# Altium schematic symbol library commutation.SchLib: 16 symbols
Pins are listed as number, name and electrical type; pins without a type are passive.

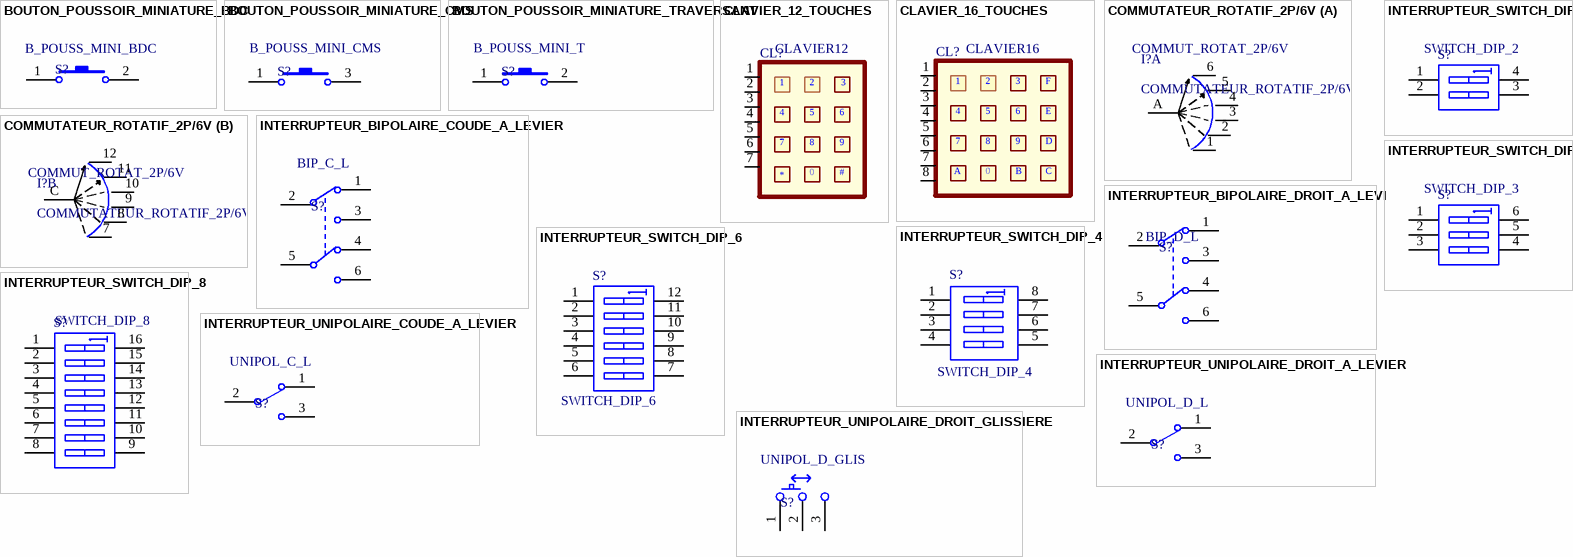
[diagram p0: symbols BOUTON_POUSSOIR_MINIATURE_BDC to INTERRUPTEUR_UNIPOLAIRE_DROIT_GLISSIERE]

## BOUTON_POUSSOIR_MINIATURE_BDC
designator S?  Type: B_POUSS_MINI_BDC  (hidden comment: BOUTON_POUSSOIR_MINIATURE_BDC)
BOUTON POUSSOIR MINIATURE - BORD DE CARTE - ON/OFF
footprint BOUTON_POUSS_BORDDECARTE (Switch; SPNO; B3F; Right Angle; PitchLong=7/4.5; Pitchlarg=2.5)
pins: 1, 2

## BOUTON_POUSSOIR_MINIATURE_CMS
designator S?  Type: B_POUSS_MINI_CMS  (hidden comment: BOUTON_POUSSOIR_MINIATURE_CMS)
BOUTON POUSSOIR MINIATURE CMS ON/OFF
footprint BOUTON_POUSS_CMS
pins: 1, 3

## BOUTON_POUSSOIR_MINIATURE_TRAVERSANT
designator S?  Type: B_POUSS_MINI_T  (hidden comment: BOUTON_POUSSOIR_MINIATURE_TRAVERSANT)
BOUTON POUSSOIR MINIATURE TRAVERSANT ON/OFF
footprint BOUTON_POUSSE_PLAT_6x6 (BOUTON POUSSOIR MINIATURE ON/OFF; BOUTON PLAT/LONG ; ESPACEMENT BROCHES = 7.62mm/5.08mm)
pins: 1, 2

## CLAVIER_12_TOUCHES
designator CL?  Type: CLAVIER12  (hidden comment: CLAVIER_12_TOUCHES)
CLAVIER 12 TOUCHES
footprint CLAVIER_12_TOUCHES (CODE_ATLANTIQUE_COMPOSANTS : IC12XY)
pins: 1, 2, 3, 4, 5, 6, 7
text: 8; 9; 0; #

## CLAVIER_16_TOUCHES
designator CL?  Type: CLAVIER16  (hidden comment: CLAVIER_16_TOUCHES)
CLAVIER 16 TOUCHES
footprint CLAVIER_16_TOUCHES (CLAVIER 65mm x 69mm)
pins: 1, 2, 3, 4, 5, 6, 7, 8
text: F; E; 9; D; A; 0; B; C

## COMMUTATEUR_ROTATIF_2P/6V
designator I?  Type: COMMUT_ROTAT_2P/6V
COMMUTATEUR ROTATIF 2 POLES / 6 VOIES
footprint COMMUT_ROTATIF_12_POS_6_VOIES (COMMUTATEUR ROTATIF 12 POSITIONS 2 POLES ; DIAMETRE : 33mm)
part A pins: 1, 2, 3, 4, 5, 6, A
part B pins: 7, 8, 9, 10, 11, 12, C

## INTERRUPTEUR_BIPOLAIRE_COUDE_A_LEVIER
designator S?  Type: BIP_C_L  (hidden comment: INTERRUPTEUR_BIPOLAIRE_COUDE_A_LEVIER)
INTERRUPTEUR BIPOLAIRE COUDE A LEVIER ON/ON
footprint INTER_BIPOL_COUD_LEVIERGD (INTERRUPTEUR BIPOLAIRE COUDE A LEVIER; DEPLACEMENT GAUCHE DROITE ; 25.4mm x 12.7mm ; ESPACEMENTS BROCHES : 5.08mm)
pins: 1, 2, 3, 4, 5, 6

## INTERRUPTEUR_BIPOLAIRE_DROIT_A_LEVIER
designator S?  Type: BIP_D_L  (hidden comment: INTERRUPTEUR_BIPOLAIRE_DROIT_A_LEVIER)
INTERRUPTEUR BIPOLAIRE DROIT A LEVIER ON/ON
footprint INTER_BIPOL_DROIT_LEVIER (INTERRUPTEUR BIPOLAIRE DROIT A LEVIER ; DIMENSIONS : 11mm x 12mm ; ESPACEMENTS BROCHES : 5.08mm)
pins: 1, 2, 3, 4, 5, 6

## INTERRUPTEUR_SWITCH_DIP_2
designator S?  Type: SWITCH_DIP_2  (hidden comment: INTERRUPTEUR_SWITCH_DIP_2)
INTERRUPTEUR SWITCH 2 CONTACTS
simulation model dpsw2 (Spice Subcircuit)
footprint INTER_DIP_2_CONTACTS (Thru-Hole DIP Switches; SPST; 2 Position; Pin Spacing=2.54mm)
pins: 1 A1, 2 A2, 3 B2, 4 B1

## INTERRUPTEUR_SWITCH_DIP_3
designator S?  Type: SWITCH_DIP_3  (hidden comment: INTERRUPTEUR_SWITCH_DIP_3)
INTERRUPTEUR SWITCH 3 CONTACTS
simulation model dpsw3 (Spice Subcircuit)
footprint INTER_DIP_3_CONTACTS (Thru-Hole DIP Switches; SPST; 3 Position; Pin Spacing=2.54mm)
pins: 1 A1, 2 A2, 3 A3, 4 B3, 5 B2, 6 B1

## INTERRUPTEUR_SWITCH_DIP_4
designator S?, comment Type: SWITCH_DIP_4  (hidden comment: NTERRUPTEUR_SWITCH_DIP_4)
NTERRUPTEUR SWITCH 4 CONTACTS
simulation model dpsw4 (Spice Subcircuit)
footprint INTER_DIP_4_CONTACTS (Thru-Hole DIP Switches; SPST; 4 Position; Pin Spacing=2.54mm)
pins: 1 A1, 2 A2, 3 A3, 4 A4, 5 B4, 6 B3, 7 B2, 8 B1

## INTERRUPTEUR_SWITCH_DIP_6
designator S?  Type: SWITCH_DIP_6  (hidden comment: INTERRUPTEUR_SWITCH_DIP_6)
INTERRUPTEUR SWITCH 6 CONTACTS
simulation model dpsw6 (Spice Subcircuit)
footprint INTER_DIP_6_CONTACTS (Thru-Hole DIP Switches; SPST; 6 Position; Pin Spacing=2.54mm)
pins: 1 A1, 2 A2, 3 A3, 4 A4, 5 A5, 6 A6, 7 B6, 8 B5, 9 B4, 10 B3, 11 B2, 12 B1

## INTERRUPTEUR_SWITCH_DIP_8
designator S?  Type: SWITCH_DIP_8  (hidden comment: INTERRUPTEUR_SWITCH_DIP_8)
INTERRUPTEUR SWITCH 8 CONTACTS
simulation model dpsw8 (Spice Subcircuit)
footprint INTER_DIP_8_CONTACTS (Thru-Hole DIP Switches; SPST; 8 Position; Pin Spacing=2.54mm)
pins: 1 A1, 2 A2, 3 A3, 4 A4, 5 A5, 6 A6, 7 A7, 8 A8, 9 B8, 10 B7, 11 B6, 12 B5, 13 B4, 14 B3, 15 B2, 16 B1

## INTERRUPTEUR_UNIPOLAIRE_COUDE_A_LEVIER
designator S?  Type: UNIPOL_C_L  (hidden comment: INTERRUPTEUR_UNIPOLAIRE_COUDE_A_LEVIER)
footprint INTER_UNIPOL_COUD_LEVIER_G/D (INTERRUPTEUR UNIPOLAIRE COUDE A LEVIER GAUCHE/DROITE ; ESPACEMENTS BROCHES : 5.08mm)
pins: 1, 2, 3

## INTERRUPTEUR_UNIPOLAIRE_DROIT_A_LEVIER
designator S?  Type: UNIPOL_D_L  (hidden comment: INTERRUPTEUR_UNIPOLAIRE_DROIT_A_LEVIER)
footprint INTER_UNIPOL_DROIT_LEVIER (INTERRUPTEUR UNIPOLAIRE DROIT A LEVIER ON/ON ; ESPACEMENTS BROCHES : 5.08mm)
pins: 1, 2, 3

## INTERRUPTEUR_UNIPOLAIRE_DROIT_GLISSIERE
designator S?  Type: UNIPOL_D_GLIS  (hidden comment: INTERRUPTEUR_UNIPOLAIRE_DROIT_GLISSIERE)
INTERRUPTEUR UNIPOLAIRE DROIT A GLISSIERE
footprint INTER_UNIPOL_DROIT_GLISS (Switch; Slide; SPDT; Pin Spacing=2.54mm)
pins: 1, 2, 3